# EAGLE library part APS6404L-3SQR-SN (library sjg-pixl)
DRAM IoT RAM 64Mb QSPI (x1,x4) SDR 133/84MHz, RBX, 3V, Ind. Temp., SOP8 Source: Datasheet <https://eu.mouser.com/datasheet/2/1127/APM_PSRAM_QSPI_APS6404L_3SQR_v2_3_PKG-1954826.pdf>
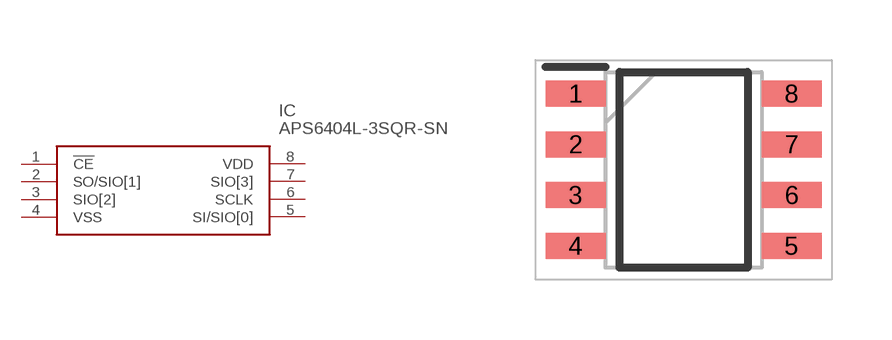
[diagram p19: symbol with the pads of SOIC127P600X175-8N; footprint SOIC127P600X175-8N]

Designator prefix IC

## APS6404L-3SQR-SN (Description: DRAM IoT RAM 64Mb QSPI (x1,x4) SDR 133/84MHz, RBX, 3V, Ind. Temp., SOP8; Height: 1.75mm; Manufacturer_Name: AP Memory; Manufacturer_Part_Number: APS6404L-3SQR-SN; Mouser_Part_Number: 878-APS6404L-3SQR-SN; Mouser_Price-Stock: https://www.mouser.co.uk/ProductDetail/AP-Memory/APS6404L-3SQR-SN?qs=IS%252B4QmGtzzqsn3S5xo%2FEEg%3D%3D)  [SOIC127P600X175-8N]
1  !CE
2  SO/SIO[1]
3  SIO[2]
4  VSS
5  SI/SIO[0]
6  SCLK
7  SIO[3]
8  VDD

## Footprint SOIC127P600X175-8N (pad centres in mm)
SOP-8L(150), package code SN
smd 1.5 x 0.65: 1 -2.7,1.905; 2 -2.7,0.635; 3 -2.7,-0.635; 4 -2.7,-1.905; 5 2.7,-1.905; 6 2.7,-0.635; 7 2.7,0.635; 8 2.7,1.905